# Altium footprint library PcbLib_soldeerbout.PcbLib: 28 footprints (part 1 of 2)
Each footprint in its own frame and in the unit in brackets; x right, y up, seen from the top. Pads: shape width x height; smd on the part's side, far side on the other; paste and mask are expansions set on the pad; w line width, h text height; cw(c..) or ccw(c..) is an arc to the next point about the centre after c.
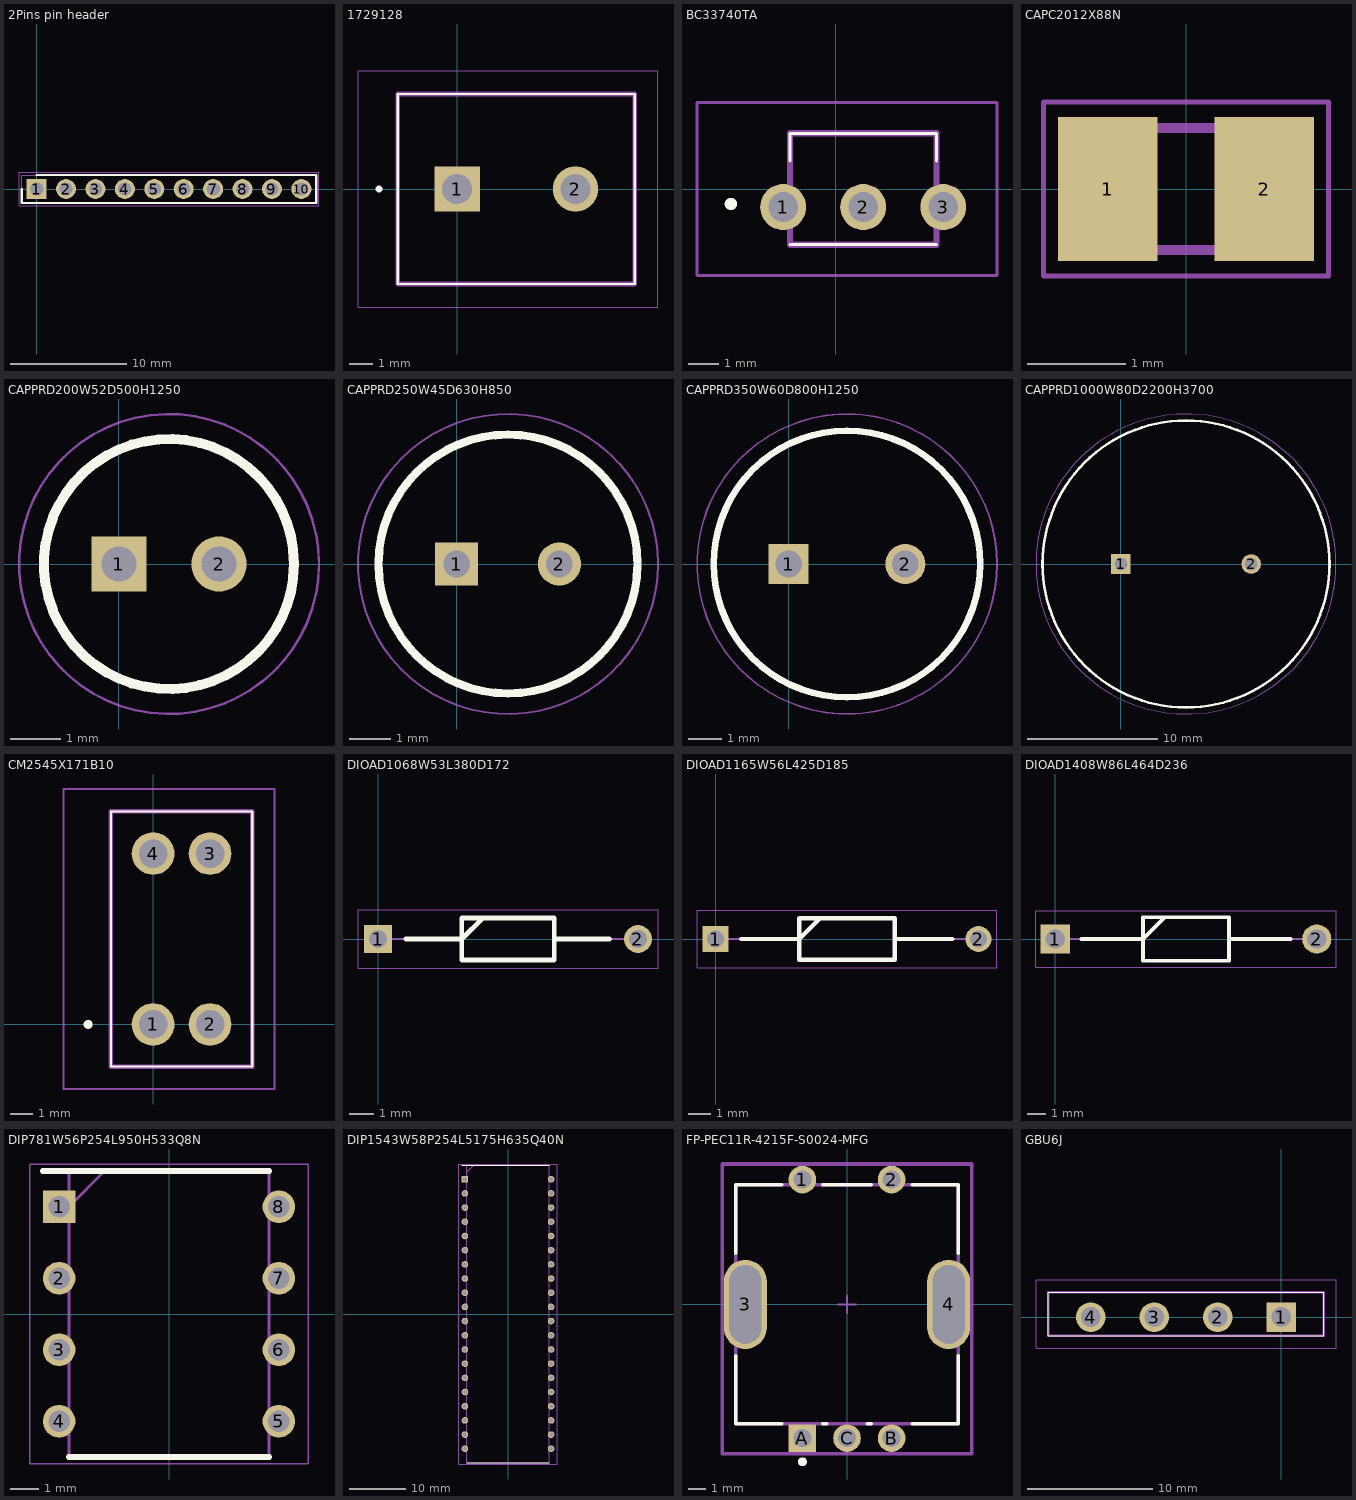
[diagram p0: the footprints below, top view; thin cyan lines are the x and y axes]

## 2Pins pin header [mm]
pads (10):
  rect 1.725x1.725 hole 1.15: 1(0,0)
  round 1.725 hole 1.15: 2(2.54,0) 3(5.08,0) 4(7.62,0) 5(10.16,0) 6(12.7,0) 7(15.24,0) 8(17.78,0) 9(20.32,0) 10(22.86,0)
Top Overlay:
  lines w0.2: -1.27,0 -1.27,-1.205 24.13,-1.205 24.13,1.205 0,1.205
Mechanical 13:
  lines w0.1: -1.27,-1.205 24.13,-1.205 24.13,1.205 -1.27,1.205 -1.27,-1.205
Mechanical 15:
  lines w0.05: -1.52,-1.455 24.38,-1.455 24.38,1.455 -1.52,1.455 -1.52,-1.455
3D body "10129378-910001BLF.stp": height 8.58, standoff -3.3, extent -1.27,-1.205 24.13,1.205

## 1729128 [mm]
pads (2):
  rect 1.95x1.95 hole 1.3: 1(0,0)
  round 1.95 hole 1.3: 2(5.08,0)
Top Overlay:
  circle w0.2: c-3.35,0 r0.05
  lines w0.1: -2.54,-4.075 -2.54,4.075 7.62,4.075 7.62,-4.075 -2.54,-4.075
Mechanical 13:
  lines w0.2: -2.54,-4.075 -2.54,4.075 7.62,4.075 7.62,-4.075 -2.54,-4.075
Mechanical 15:
  lines w0.05: -4.25,-5.075 -4.25,5.075 8.62,5.075 8.62,-5.075 -4.25,-5.075
3D body "1729128.stp": height 10.32, standoff -3.18, extent -2.82,-4.05 7.74,4.05

## BC33740TA [mm]
pads (3):
  round 1.493 hole 0.96: 1(-1.7,-0.585) 2(0.9,-0.585) 3(3.5,-0.585)
Top Overlay:
  lines w0.1: -1.48,-1.81 3.28,-1.81 ; -1.48,0.915 -1.48,1.81 3.28,1.81 3.28,0.915
  lines w0.2: -3.4,-0.585 cw(c-3.4,-0.485) -3.4,-0.385 cw(c-3.4,-0.485) -3.4,-0.585
Mechanical 13:
  lines w0.2: -1.48,-1.81 3.28,-1.81 3.28,1.81 -1.48,1.81 -1.48,-1.81
Mechanical 15:
  lines w0.1: -4.5,-2.81 5.247,-2.81 5.247,2.81 -4.5,2.81 -4.5,-2.81
3D body "BC547BTF.stp": height 8.67, standoff -13.1, extent -2.16,-2.38 4,1.75

## CAPC2012X88N [mm]
pads (2):
  rect 1.02x1.47 smd: 1(-0.8,0) 2(0.8,0)
Mechanical 13:
  lines w0.1: -1,-0.625 1,-0.625 1,0.625 -1,0.625 -1,-0.625
Mechanical 15:
  lines w0.05: -1.46,-0.89 1.46,-0.89 1.46,0.89 -1.46,0.89 -1.46,-0.89
3D body "C0805C103K5RACTU.stp": height 0.88, standoff 0, extent -1,-0.625 1,0.625

## CAPPRD200W52D500H1250 [mm]
pads (2):
  rect 1.1x1.1 hole 0.7: 1(0,0)
  round 1.1 hole 0.7: 2(2,0)
Top Overlay:
  circle w0.2: c1,0 r2.5
Mechanical 13:
  circle w0.1: c1,0 r2.5
Mechanical 15:
  circle w0.05: c1,0 r3
3D body "860010672001.stp": height 12.5, standoff -10, extent -1.75,-2.75 3.75,2.75

## CAPPRD250W45D630H850 [mm]
pads (2):
  rect 1.05x1.05 hole 0.65: 1(0,0)
  round 1.05 hole 0.65: 2(2.5,0)
Top Overlay:
  circle w0.2: c1.25,0 r3.15
Mechanical 13:
  circle w0.1: c1.25,0 r3.15
Mechanical 15:
  circle w0.05: c1.25,0 r3.65
3D body "ESS106M050AE2AA.stp": height 8.5, standoff -10, extent -2.15,-3.4 4.65,3.4

## CAPPRD350W60D800H1250 [mm]
pads (2):
  rect 1.2x1.2 hole 0.8: 1(0,0)
  round 1.2 hole 0.8: 2(3.5,0)
Top Overlay:
  circle w0.2: c1.75,0 r4
Mechanical 13:
  circle w0.1: c1.75,0 r4
Mechanical 15:
  circle w0.05: c1.75,0 r4.5
3D body "ESK107M050AG3EA.stp": height 12.5, standoff -10, extent -2.5,-4.25 6,4.25

## CAPPRD1000W80D2200H3700 [mm]
pads (2):
  rect 1.5x1.5 hole 1: 1(0,0)
  round 1.5 hole 1: 2(10,0)
Top Overlay:
  circle w0.2: c5,0 r11
Mechanical 13:
  circle w0.1: c5,0 r11
Mechanical 15:
  circle w0.05: c5,0 r11.5
3D body "ESK478M050AQ3AA.stp": height 37, standoff -10, extent -6.25,-11.25 16.25,11.25

## CM2545X171B10 [mm]
pads (4):
  round 1.905 hole 1.27: 1(0,0) 2(2.54,0) 3(2.54,7.62) 4(0,7.62)
Top Overlay:
  lines w0.1: -1.88,-1.88 4.42,-1.88 4.42,9.5 -1.88,9.5 -1.88,-1.88
  lines w0.2: -3,0 ccw(c-2.9,0) -2.8,0 ccw(c-2.9,0) -3,0
Mechanical 13:
  lines w0.2: -1.88,-1.88 4.42,-1.88 4.42,9.5 -1.88,9.5 -1.88,-1.88
Mechanical 15:
  lines w0.1: -4,-2.88 5.42,-2.88 5.42,10.5 -4,10.5 -4,-2.88
3D body "CM2545X171B-10.stp": height 9.6, standoff -5, extent -1.88,-1.88 4.42,9.5

## DIOAD1068W53L380D172 [mm]
pads (2):
  rect 1.15x1.15 hole 0.75: 1(0,0)
  round 1.15 hole 0.75: 2(10.7,0)
Top Overlay:
  lines w0.2: 1.143,0 3.448,0 4.308,0.86 ; 7.252,0 9.525,0 ; 3.448,-0.86 3.448,0.86 7.252,0.86 7.252,-0.86 3.448,-0.86
Mechanical 13:
  lines w0.1: 0,0 3.448,0 4.308,0.86 ; 7.252,0 10.7,0 ; 3.448,-0.86 3.448,0.86 7.253,0.86 7.253,-0.86 3.448,-0.86
Mechanical 15:
  lines w0.05: -0.825,-1.21 -0.825,1.21 11.525,1.21 11.525,-1.21 -0.825,-1.21
3D body "1N5231B.stp": height 1.9, standoff -1.91, extent -0.264,-0.953 10.951,0.953

## DIOAD1165W56L425D185 [mm]
pads (2):
  rect 1.15x1.15 hole 0.75: 1(0,0)
  round 1.15 hole 0.75: 2(11.7,0)
Top Overlay:
  lines w0.2: 1.143,0 3.725,0 4.65,0.925 ; 7.975,0 10.541,0 ; 3.725,-0.925 7.975,-0.925 7.975,0.925 3.725,0.925 3.725,-0.925
Mechanical 13:
  lines w0.1: 0,0 3.725,0 4.65,0.925 ; 7.975,0 11.7,0 ; 3.725,-0.925 7.975,-0.925 7.975,0.925 3.725,0.925 3.725,-0.925
Mechanical 15:
  lines w0.05: -0.825,-1.275 12.525,-1.275 12.525,1.275 -0.825,1.275 -0.825,-1.275
3D body "1N4148.stp": height 1.84, standoff -1.85, extent -0.278,-0.923 11.93,0.923

## DIOAD1408W86L464D236 [mm]
pads (2):
  rect 1.575x1.575 hole 1.05: 1(0,0)
  round 1.575 hole 1.05: 2(14.1,0)
Top Overlay:
  lines w0.2: 1.397,0 4.732,0 5.912,1.18 ; 9.368,0 12.7,0 ; 4.732,-1.18 4.732,1.18 9.368,1.18 9.368,-1.18 4.732,-1.18
Mechanical 13:
  lines w0.1: 0,0 4.732,0 5.912,1.18 ; 9.368,0 14.1,0 ; 4.732,-1.18 4.732,1.18 9.367,1.18 9.367,-1.18 4.732,-1.18
Mechanical 15:
  lines w0.05: -1.038,-1.53 -1.038,1.53 15.137,1.53 15.137,-1.53 -1.038,-1.53
3D body "1N4007-T.stp": height 2.71, standoff -2.72, extent -0.429,-1.357 14.507,1.357

## DIP781W56P254L950H533Q8N [mm]
pads (8):
  rect 1.158x1.158 hole 0.758: 1(-3.905,3.81)
  round 1.158 hole 0.758: 2(-3.905,1.27) 3(-3.905,-1.27) 4(-3.905,-3.81) 5(3.905,-3.81) 6(3.905,-1.27) 7(3.905,1.27) 8(3.905,3.81)
Top Overlay:
  lines w0.2: -4.484,5.08 3.556,5.08 ; -3.556,-5.08 3.556,-5.08
Mechanical 13:
  lines w0.1: -3.556,3.81 -2.286,5.08 ; -3.556,-5.08 3.556,-5.08 3.556,5.08 -3.556,5.08 -3.556,-5.08
Mechanical 15:
  lines w0.05: -4.956,-5.33 4.956,-5.33 4.956,5.33 -4.956,5.33 -4.956,-5.33
3D body "MCP6002-E_P.stp": height 5.33, standoff -3.5, extent -4.045,-4.75 4.045,4.75

## DIP1543W58P254L5175H635Q40N [mm]
pads (40):
  rect 1.184x1.184 hole 0.784: 1(-7.715,24.13)
  round 1.184 hole 0.784: 2(-7.715,21.59) 3(-7.715,19.05) 4(-7.715,16.51) 5(-7.715,13.97) 6(-7.715,11.43) 7(-7.715,8.89) 8(-7.715,6.35) 9(-7.715,3.81) 10(-7.715,1.27) 11(-7.715,-1.27) 12(-7.715,-3.81) 13(-7.715,-6.35) 14(-7.715,-8.89) 15(-7.715,-11.43) 16(-7.715,-13.97) 17(-7.715,-16.51) 18(-7.715,-19.05) 19(-7.715,-21.59) 20(-7.715,-24.13) 21(7.715,-24.13) 22(7.715,-21.59) 23(7.715,-19.05) 24(7.715,-16.51) 25(7.715,-13.97) 26(7.715,-11.43) 27(7.715,-8.89) 28(7.715,-6.35) 29(7.715,-3.81) 30(7.715,-1.27) 31(7.715,1.27) 32(7.715,3.81) 33(7.715,6.35) 34(7.715,8.89) 35(7.715,11.43) 36(7.715,13.97) 37(7.715,16.51) 38(7.715,19.05) 39(7.715,21.59) 40(7.715,24.13)
Top Overlay:
  lines w0.2: -8.307,26.606 7.366,26.606 ; -7.366,-26.606 7.366,-26.606
Mechanical 13:
  lines w0.1: -7.366,25.336 -6.096,26.606 ; -7.366,-26.606 7.366,-26.606 7.366,26.606 -7.366,26.606 -7.366,-26.606
Mechanical 15:
  lines w0.05: -8.78,-26.856 8.78,-26.856 8.78,26.856 -8.78,26.856 -8.78,-26.856
3D body "ATMEGA4809-PF.stp": height 6.35, standoff -3.5, extent -7.861,-25.876 7.861,25.876

## FP-PEC11R-4215F-S0024-MFG [mm]
pads (7):
  round 1.55 hole 1 paste-1000 mask+0: 1(-2.5,7) 2(2.5,7) B(2.5,-7.5) C(0,-7.5)
  rrect100% 2.4x5 hole 4.4 slot 1.8 at 0 deg paste-1000 mask+0: 3(-5.7,0) 4(5.7,0)
  rect 1.55x1.55 hole 1 paste-1000 mask+0: A(-2.5,-7.5)
Top Overlay:
  circle w0.25: c-2.5,-8.825 r0.125
  lines w0.2: -6.25,-2.875 -6.25,-6.7 -3.65,-6.7 ; -6.25,2.875 -6.25,6.7 -3.65,6.7 ; -1.35,-6.7 -1.15,-6.7 ; -1.35,6.7 1.35,6.7 ; 1.15,-6.7 1.35,-6.7 ; 3.65,-6.7 6.25,-6.7 6.25,-2.875 ; 3.65,6.7 6.25,6.7 6.25,2.875
Top 3D Body:
  lines w0.2: -6.25,-6.7 -6.25,6.7 6.25,6.7 6.25,-6.7 -6.25,-6.7
Top Courtyard:
  lines w0.2: -7,-8.375 -7,7.875 7,7.875 7,-8.375 -7,-8.375
Top Assembly:
  lines w0.2: -7,-8.375 -7,7.875 7,7.875 7,-8.375 -7,-8.375
  text ".Designator" at 0,-0.062 h1
Top Component Center:
  lines w0.1: -0.5,0 0.5,0 ; 0,-0.5 0,0.5
3D body "Enc_Bourns_PEC11R-4215F-S0024_eec.STEP": height 0.25, standoff 0, extent -7,-8.375 7,7.875

## GBU6J [mm]
pads (4):
  rect 2.37x2.37 hole 1.58: 1(0,0)
  round 2.37 hole 1.58: 2(-5.08,0) 3(-10.16,0) 4(-15.24,0)
Top Overlay:
  lines w0.1: -18.62,-1.5 -18.62,2 3.38,2 3.38,-1.5 -18.62,-1.5
Mechanical 13:
  lines w0.2: -18.62,-1.5 -18.62,2 3.38,2 3.38,-1.5 -18.62,-1.5
Mechanical 15:
  lines w0.1: -19.62,-2.5 -19.62,3 4.38,3 4.38,-2.5 -19.62,-2.5
3D body "GBU6J.stp": height 18.9, standoff -5, extent -18.62,-1.5 3.38,2